# EAGLE library part 555X-6 (library con-molex-minifit)
Mini FIT connector 6 way
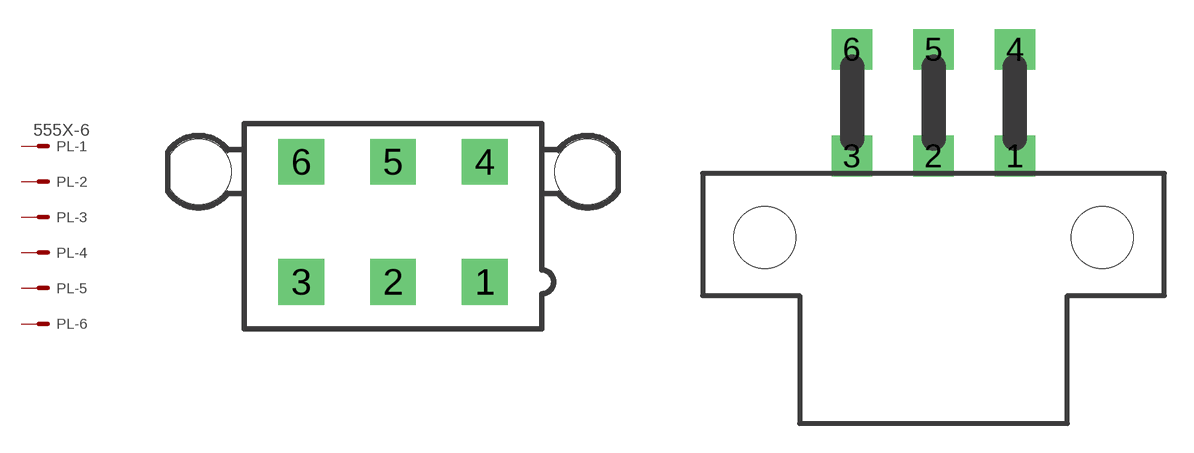
[diagram p0: symbol with the pads of 5566-6; footprints 5566-6, 5569-6]

Designator prefix PL; gates -1=MV -2=M -3=M -4=M -5=M -6=M

## 555X-6V  [5566-6]
1  -1:S  pas
2  -2:S  pas
3  -3:S  pas
4  -4:S  pas
5  -5:S  pas
6  -6:S  pas

## 555X-6H  [5569-6]
Pads as for 5566-6

## Footprint 5566-6 (pad centres in mm)
Mini FIT connector 6 pol
drill 1.4 square: 1 4.2,-2.75; 2 0,-2.75; 3 -4.2,-2.75; 4 4.2,2.75; 5 0,2.75; 6 -4.2,2.75
hole 3 at 8.9,2.29
hole 3 at -8.9,2.29

## Footprint 5569-6 (pad centres in mm)
Mini FIT connector 6 R/A
drill 1.4 square: 1 4.2,0; 2 0,0; 3 -4.2,0; 4 4.2,5.5; 5 0,5.5; 6 -4.2,5.5
hole 3.2 at 8.7,-4.2
hole 3.2 at -8.7,-4.2